# Altium schematic symbol library SCH - POWER - WURTH - 173010578.SCHLIB: 1 symbol
Pins are listed as number, name and electrical type; pins without a type are passive.

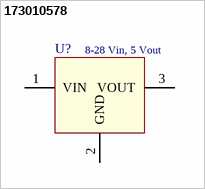
[diagram p0: symbol 173010578]

## 173010578
designator U?, comment 8-28 Vin, 5 Vout
MagI³C-FDSM Fixed Step Down Regulator Module, SIP-3, 8-28 Vin, 5 Vout
pins: 1 VIN, 2 GND, 3 VOUT